# EAGLE library part LCD-44780-4BIT (library bt_display)
HD44780 LCD in 4-Bit mode HD44780-based LCD screen (e.g., 16x2, 40x4, ...) in 4-bit mode, using only D4:D5.
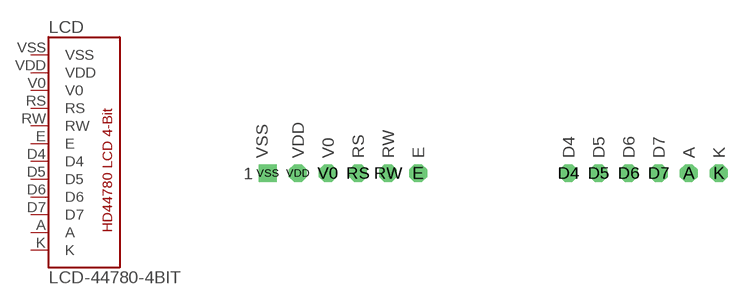
[diagram p0: symbol with the pads of LCD16SIP; footprint LCD16SIP]

Designator prefix LCD

## LCD-44780-4BIT  [LCD16SIP]
A  A
D4  D4
D5  D5
D6  D6
D7  D7
E  E
K  K
RS  RS
RW  RW
V0  V0
VDD  VDD
VSS  VSS

## Footprint LCD16SIP (pad centres in mm)
drill 1 octagon: A 35.56,0; D4 25.4,0; D5 27.94,0; D6 30.48,0; D7 33.02,0; E 12.7,0; K 38.1,0; RS 7.62,0; RW 10.16,0; V0 5.08,0; VDD 2.54,0
drill 1 square: VSS 0,0